# Altium integrated library buzzer.IntLib: 1 symbol
Pins are listed as number, name and electrical type; pins without a type are passive.

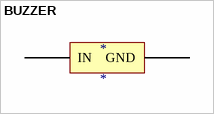
[diagram p0: symbol BUZZER]

## BUZZER
designator *
footprint BUZZER
pins: 1 IN, 2 GND